# EAGLE library part STEPPER-DRIVER-TMC2130 (library Modules)
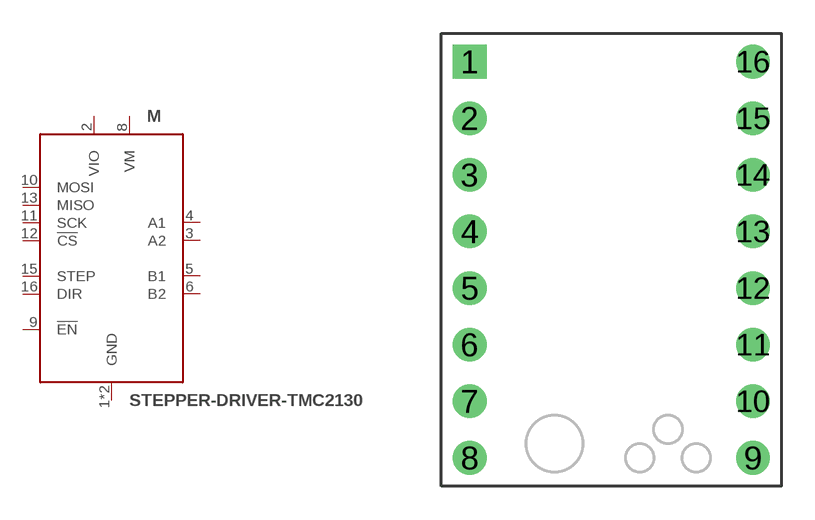
[diagram p1: symbol with the pads of STEPPER-DRIVER-SPI-TMC2130; footprint STEPPER-DRIVER-SPI-TMC2130]

Designator prefix M

## STEPPER-DRIVER-TMC2130  [STEPPER-DRIVER-SPI-TMC2130]
1  GND  pwr
2  VIO  pwr
3  A2  out
4  A1  out
5  B1  out
6  B2  out
7  GND  pwr
8  VM  pwr
9  !EN  in
10  MOSI  in
11  SCK  in
12  !CS  in
13  MISO  in
15  STEP  in
16  DIR  in

## Footprint STEPPER-DRIVER-SPI-TMC2130 (pad centres in mm)
drill 1 square: 1 -6.35,8.89
drill 1: 2 -6.35,6.35; 3 -6.35,3.81; 4 -6.35,1.27; 5 -6.35,-1.27; 6 -6.35,-3.81; 7 -6.35,-6.35; 8 -6.35,-8.89; 9 6.35,-8.89; 10 6.35,-6.35; 11 6.35,-3.81; 12 6.35,-1.27; 13 6.35,1.27; 14 6.35,3.81; 15 6.35,6.35; 16 6.35,8.89